# Altium schematic symbol library Voltage Regulator_LMS8117AMP33.Schlib: 1 symbol
Pins are listed as number, name and electrical type; pins without a type are passive.

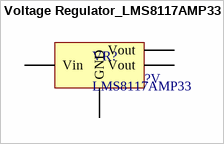
[diagram p0: symbol Voltage Regulator_LMS8117AMP33]

## Voltage Regulator_LMS8117AMP33
designator VR?, comment LMS8117AMP33  Output Voltage: ?V
footprint SOT230P700X170-4N (SOT223, 4-Leads, Body 6.50x7.00mm (avg), Pitch 2.30mm, IPC Medium Density)
pins: 1 GND, 2 Vout, 3 Vin, 4 Vout